# EAGLE library part 831-3628 (library con-wago_7.62mm)
Serie 831, Stiftleiste (für Leiterplatten) mit abgewinkelten Einlötstiften / Series 831, Male header (for PCBs) with angled solder pins Polzahl / Pole No.: 8 Bemessungsspannung / Rated Voltage: 630 V Nennstrom / Nominal Current: 41 A Lötstiftlänge: / Solder Pin Length: 4 mm Farbe / Color: lichtgrau / light gray Stand: 01.01.2012. Die jeweils aktuellen Daten zu diesem Artikel finden Sie in unserem Produktkatalog, den Sie unter www.wago.com einsehen können. As of: 01/01/2012. Please find the newest data for this article in our product catalogue, which can be viewed under www.wago.com.
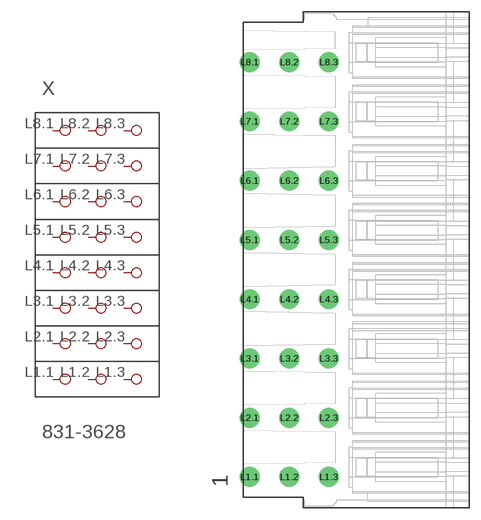
[diagram p13: symbol with the pads of P-831-3628; footprint P-831-3628]

Designator prefix X

## 831-3628  [P-831-3628]
L1.1  P1.1
L1.2  P1.2
L1.3  P1.3
L2.1  P2.1
L2.2  P2.2
L2.3  P2.3
L3.1  P3.1
L3.2  P3.2
L3.3  P3.3
L4.1  P4.1
L4.2  P4.2
L4.3  P4.3
L5.1  P5.1
L5.2  P5.2
L5.3  P5.3
L6.1  P6.1
L6.2  P6.2
L6.3  P6.3
L7.1  P7.1
L7.2  P7.2
L7.3  P7.3
L8.1  P8.1
L8.2  P8.2
L8.3  P8.3

## Footprint P-831-3628 (pad centres in mm)
drill 1.7 round: L1.1 -13.7,-27.94; L1.2 -8.62,-27.94; L1.3 -3.54,-27.94; L2.1 -13.7,-20.32; L2.2 -8.62,-20.32; L2.3 -3.54,-20.32; L3.1 -13.7,-12.7; L3.2 -8.62,-12.7; L3.3 -3.54,-12.7; L4.1 -13.7,-5.08; L4.2 -8.62,-5.08; L4.3 -3.54,-5.08; L5.1 -13.7,2.56; L5.2 -8.62,2.56; L5.3 -3.54,2.56; L6.1 -13.7,10.18; L6.2 -8.62,10.18; L6.3 -3.54,10.18; L7.1 -13.7,17.8; L7.2 -8.62,17.8; L7.3 -3.54,17.8; L8.1 -13.7,25.42; L8.2 -8.62,25.42; L8.3 -3.54,25.42